# EAGLE library part XCF02S-VO20 (library xilinx)
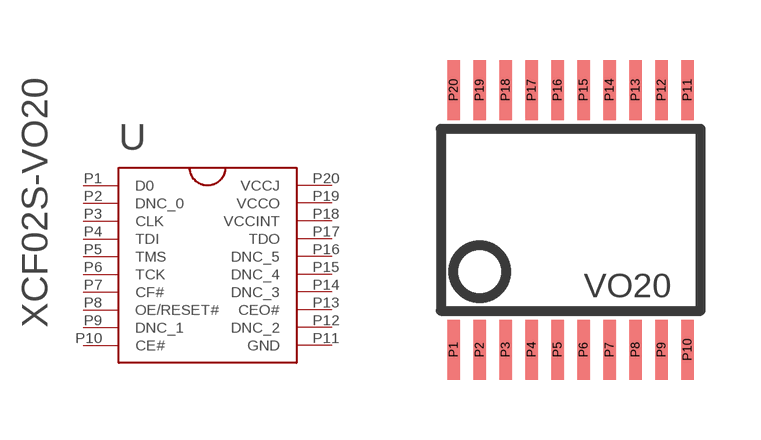
[diagram p1: symbol with the pads of VO20; footprint VO20]

Designator prefix -

## XCF02S-VO20  [VO20]
P1  D0  out
P2  DNC_0  nc
P3  CLK  in
P4  TDI  in
P5  TMS
P6  TCK  in
P7  CF#  out
P8  OE/RESET#  in
P9  DNC_1  nc
P10  CE#  in
P11  GND  pwr
P12  DNC_2  nc
P13  CEO#  out
P14  DNC_3  nc
P15  DNC_4  nc
P16  DNC_5  nc
P17  TDO  out
P18  VCCINT  pwr
P19  VCCO  pwr
P20  VCCJ  pwr

## Footprint VO20 (pad centres in mm)
smd 0.32 x 1.5: P1 -2.6,-3.25; P2 -1.95,-3.25; P3 -1.3,-3.25; P4 -0.65,-3.25; P5 0,-3.25; P6 0.65,-3.25; P7 1.3,-3.25; P8 1.95,-3.25; P9 2.6,-3.25; P10 3.25,-3.25; P11 3.25,3.25; P12 2.6,3.25; P13 1.95,3.25; P14 1.3,3.25; P15 0.65,3.25; P16 0,3.25; P17 -0.65,3.25; P18 -1.3,3.25; P19 -1.95,3.25; P20 -2.6,3.25